# Altium schematic symbol library Current Sensor.SchLib: 1 symbol
Pins are listed as number, name and electrical type; pins without a type are passive.

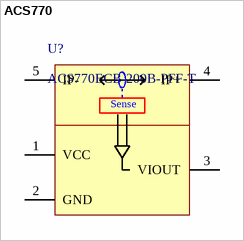
[diagram p0: symbol ACS770]

## ACS770
designator U?, comment ACS770ECB-200B-PFF-T
/ Current Sensor 200A 1 Channel Hall Effect, Open Loop Bidirectional 5-CB Formed Leads, PFF; Full Part Number: ACS770ECB-200B-PFF-T; Value: ACS770ECB-200B-PFF-T
footprint ACS770
pins: 1 VCC, 2 GND, 3 VIOUT, 4 IP+, 5 IP-
text: Sense